# Altium footprint library AltiumLive.PcbLib: 2 footprints
Each footprint in its own frame and in the unit in brackets; x right, y up, seen from the top. Pads: shape width x height; smd on the part's side, far side on the other; paste and mask are expansions set on the pad; w line width, h text height; cw(c..) or ccw(c..) is an arc to the next point about the centre after c.
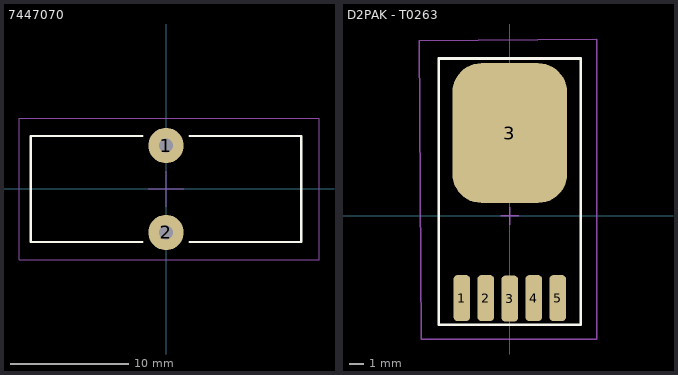
[diagram p0: the footprints below, top view; thin cyan lines are the x and y axes]

## 7447070 [mm] "0.984\" Dia x 0.433\" W (25.00mm x 11.00mm)"
height 40
pads (2):
  round 3 hole 1.2: 1(0,3.695) 2(0,-3.695)
Top Overlay:
  lines w0.2: -2,-4.5 -11.5,-4.5 -11.5,4.5 -2,4.5 ; 2,-4.5 11.5,-4.5 11.5,4.5 2,4.5
Mechanical 15:
  lines w0.1: -1.5,0 1.5,0 ; 0,-1.5 0,1.5 ; -12.5,-6 -12.5,-5.5 -12.5,6 -11,6 13,6 13,-6 -12.5,-6
3D body "7447070_Download_STP_7447070_rev1.stp": height 22.08, standoff -14.1, extent -11.111,-4.195 11.111,4.195

## D2PAK - T0263 [mm]
pads (6):
  rrect50% 1.2x3.3 smd: 1(-3.429,-5.888) 2(-1.714,-5.888) 3(0,-5.923) 4(1.714,-5.888) 5(3.429,-5.888)
  rrect50% 8.2x10 smd: 3(0,5.923)
Top Overlay:
  lines w0.2: -5.08,-7.793 -5.08,11.257 5.08,11.257 5.08,-7.793 -5.08,-7.793
Mechanical 15:
  lines w0.1: -6.477,12.522 6.223,12.654 6.223,-8.809 -6.35,-8.809 -6.477,12.527 ; -0.635,0 0.635,0 ; 0,-0.635 0,0.635
3D body "TO263-5-1.stp": height 4.22, standoff 0, extent -4.911,-5.923 4.911,8.678